# EAGLE library part 6386 (library tubes)
TWIN TRIODE
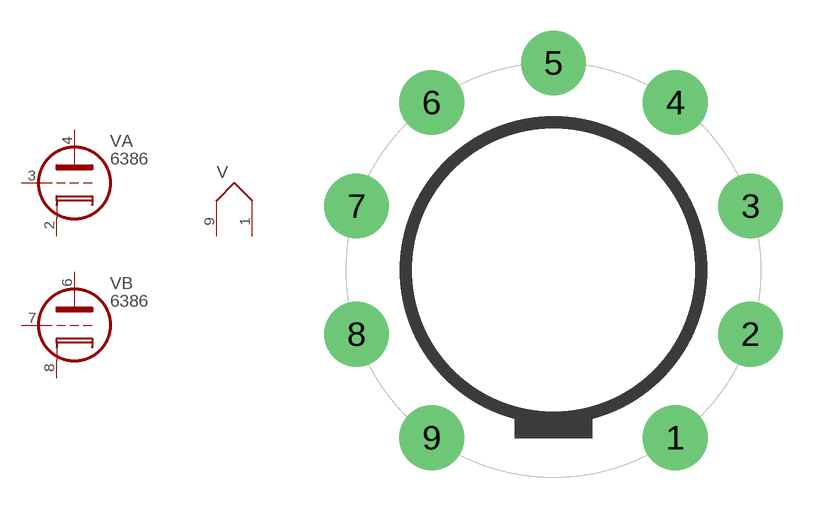
[diagram p5: symbol with the pads of SOCKET-9PIN; footprint SOCKET-9PIN]

Designator prefix V; gates A=TRIODE B=TRIODE F=HTR

## 6386  [SOCKET-9PIN]
1  F:F2  pas
2  A:C  pas
3  A:G  pas
4  A:A  pas
6  B:A  pas
7  B:G  pas
8  B:C  pas
9  F:F1  pas

## Footprint SOCKET-9PIN (pad centres in mm)
drill 1.93 pad 3.175: 1 5.972,-8.22; 2 9.663,-3.14; 3 9.663,3.14; 4 5.972,8.22; 5 0,10.16; 6 -5.972,8.22; 7 -9.663,3.14; 8 -9.663,-3.14; 9 -5.972,-8.22